# Altium schematic symbol library DM9000.SchLib: 1 symbol
Pins are listed as number, name and electrical type; pins without a type are passive.

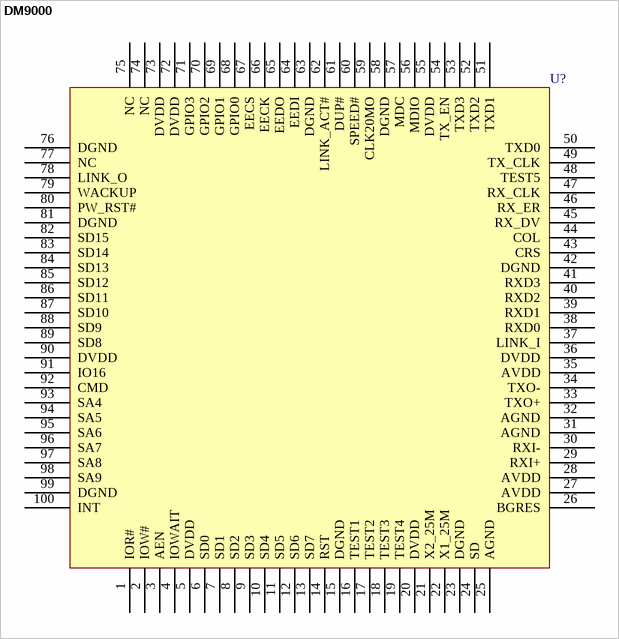
[diagram p0: symbol DM9000]

## DM9000
designator U?
pins: 1 IOR#, 2 IOW#, 3 AEN, 4 IOWAIT, 5 DVDD, 6 SD0, 7 SD1, 8 SD2, 9 SD3, 10 SD4, 11 SD5, 12 SD6, 13 SD7, 14 RST, 15 DGND, 16 TEST1, 17 TEST2, 18 TEST3, 19 TEST4, 20 DVDD, 21 X2_25M, 22 X1_25M, 23 DGND, 24 SD, 25 AGND, 26 BGRES, 27 AVDD, 28 AVDD, 29 RXI+, 30 RXI-, 31 AGND, 32 AGND, 33 TXO+, 34 TXO-, 35 AVDD, 36 DVDD, 37 LINK_I, 38 RXD0, 39 RXD1, 40 RXD2, 41 RXD3, 42 DGND, 43 CRS, 44 COL, 45 RX_DV, 46 RX_ER, 47 RX_CLK, 48 TEST5, 49 TX_CLK, 50 TXD0, 51 TXD1, 52 TXD2, 53 TXD3, 54 TX_EN, 55 DVDD, 56 MDIO, 57 MDC, 58 DGND, 59 CLK20MO, 60 SPEED#, 61 DUP#, 62 LINK_ACT#, 63 DGND, 64 EEDI, 65 EEDO, 66 EECK, 67 EECS, 68 GPIO0, 69 GPIO1, 70 GPIO2, 71 GPIO3, 72 DVDD, 73 DVDD, 74 NC, 75 NC, 76 DGND, 77 NC, 78 LINK_O, 79 WACKUP, 80 PW_RST#, 81 DGND, 82 SD15, 83 SD14, 84 SD13, 85 SD12, 86 SD11, 87 SD10, 88 SD9, 89 SD8, 90 DVDD, 91 IO16, 92 CMD, 93 SA4, 94 SA5, 95 SA6, 96 SA7, 97 SA8, 98 SA9, 99 DGND, 100 INT